# Altium footprint library 618 0xx 233 821.PcbLib: 4 footprints
Each footprint in its own frame and in the unit in brackets; x right, y up, seen from the top. Pads: shape width x height; smd on the part's side, far side on the other; paste and mask are expansions set on the pad; w line width, h text height; cw(c..) or ccw(c..) is an arc to the next point about the centre after c.
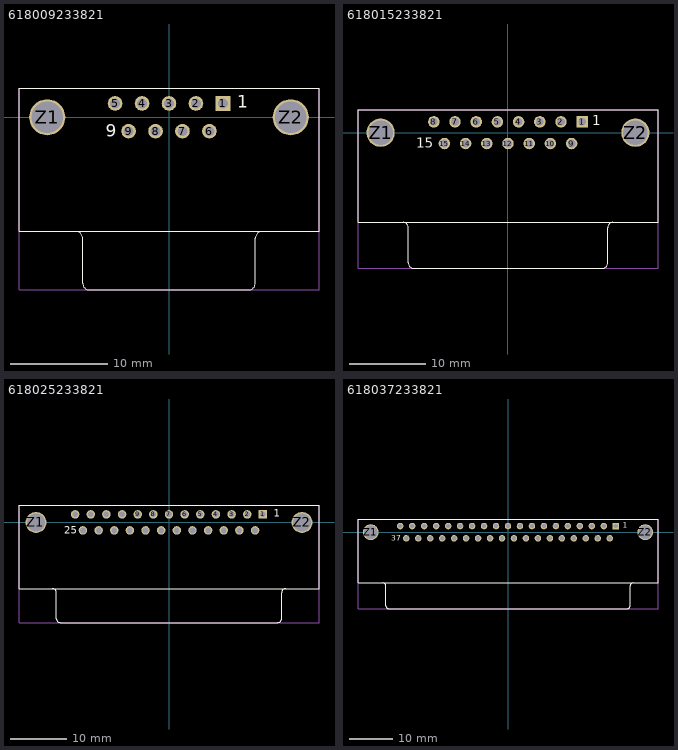
[diagram p0: the footprints below, top view; thin cyan lines are the x and y axes]

## 618009233821 [mm] "09p 10.3mm bracket, board lock & UNC4-40 Rivet without hex screw"
height 12.5
pads (11):
  rect 1.5x1.5 hole 1: 1(5.54,1.42)
  round 1.5 hole 1: 2(2.77,1.42) 3(0,1.42) 4(-2.77,1.42) 5(-5.54,1.42) 6(4.155,-1.42) 7(1.385,-1.42) 8(-1.385,-1.42) 9(-4.155,-1.42)
  round 3.7 hole 3.2: Z1(-12.5,0) Z2(12.5,0)
Top Overlay:
  lines w0.127: -9.56,-11.725 cw(c-9.56,-12.42) -8.865,-12.42 -8.865,-17.02 ; -8.86,-17.025 ccw(c-8.165,-17.025) -8.165,-17.72 8.165,-17.72 ccw(c8.165,-17.025) 8.86,-17.025 ; 8.865,-17.02 8.865,-12.42 cw(c9.56,-12.42) 9.56,-11.725 ; -15.4,-11.72 15.4,-11.72 15.4,3 -15.4,3 -15.4,-11.72
  text "9" at -6.5,-2 h1.27
  text "1" at 7,1 h1.27
Mechanical 13:
  lines w0.127: -15.4,-17.72 -15.4,3 15.4,3 15.4,-17.72 -15.4,-17.72
3D body: height 12.51, standoff -3.17, extent -15.4,-17.725 15.4,3.025

## 618015233821 [mm] "15p 10.3mm bracket, board lock & UNC4-40 Rivet without hex screw"
height 12.5
pads (17):
  rect 1.5x1.5 hole 1: 1(9.695,1.42)
  round 1.5 hole 1: 2(6.925,1.42) 3(4.155,1.42) 4(1.385,1.42) 5(-1.385,1.42) 6(-4.155,1.42) 7(-6.925,1.42) 8(-9.695,1.42) 9(8.31,-1.42) 10(5.54,-1.42) 11(2.77,-1.42) 12(0,-1.42) 13(-2.77,-1.42) 14(-5.54,-1.42) 15(-8.31,-1.42)
  round 3.7 hole 3.2: Z1(-16.65,0) Z2(16.65,0)
Top Overlay:
  lines w0.127: -13.715,-11.725 cw(c-13.715,-12.42) -13.02,-12.42 -13.02,-17.02 ; -13.015,-17.025 ccw(c-12.32,-17.025) -12.32,-17.72 12.32,-17.72 ccw(c12.32,-17.025) 13.015,-17.025 ; 13.02,-17.02 13.02,-12.42 cw(c13.715,-12.42) 13.715,-11.725 ; -19.6,-11.72 -19.6,3 19.6,3 19.6,-11.72 -19.6,-11.72
  text "1" at 11,1 h1.27
  text "15" at -12,-2 h1.27
Mechanical 13:
  lines w0.127: -19.6,-17.72 -19.6,3 19.6,3 19.6,-17.72 -19.6,-17.72
3D body: height 12.51, standoff -3.17, extent -19.6,-17.725 19.6,3.025

## 618025233821 [mm] "25p 10.3mm bracket, board lock & UNC4-40 Rivet without hex screw"
height 12.5
pads (27):
  rect 1.5x1.5 hole 1: 1(16.62,1.42)
  round 1.5 hole 1: 2(13.85,1.42) 3(11.08,1.42) 4(8.31,1.42) 5(5.54,1.42) 6(2.77,1.42) 7(0,1.42) 8(-2.77,1.42) 9(-5.54,1.42) 10(-8.31,1.42) 11(-11.08,1.42) 12(-13.85,1.42) 13(-16.62,1.42) 14(15.235,-1.42) 15(12.465,-1.42) 16(9.695,-1.42) 17(6.925,-1.42) 18(4.155,-1.42) 19(1.385,-1.42) 20(-1.385,-1.42) 21(-4.155,-1.42) 22(-6.925,-1.42) 23(-9.695,-1.42) 24(-12.465,-1.42) 25(-15.235,-1.42)
  round 3.7 hole 3.2: Z1(-23.55,0) Z2(23.55,0)
Top Overlay:
  lines w0.127: -20.64,-11.725 cw(c-20.64,-12.42) -19.945,-12.42 -19.945,-17.02 ; -19.94,-17.025 ccw(c-19.245,-17.025) -19.245,-17.72 19.245,-17.72 ccw(c19.245,-17.025) 19.94,-17.025 ; 19.945,-17.02 19.945,-12.42 cw(c20.64,-12.42) 20.64,-11.725 ; -26.55,-11.72 -26.55,3 26.55,3 26.55,-11.72 -26.55,-11.72
  text "1" at 18.5,1 h1.27
  text "25" at -18.5,-2 h1.27
Mechanical 13:
  lines w0.127: -26.55,-17.72 26.55,-17.72 26.55,3 -26.55,3 -26.55,-17.72
3D body: height 12.51, standoff -3.17, extent -26.55,-17.725 26.55,3.025

## 618037233821 [mm] "37p 10.3mm bracket, board lock & UNC4-40 Rivet without hex screw"
height 12.5
pads (39):
  rect 1.5x1.5 hole 1: 1(24.93,1.42)
  round 1.5 hole 1: 2(22.16,1.42) 3(19.39,1.42) 4(16.62,1.42) 5(13.85,1.42) 6(11.08,1.42) 7(8.31,1.42) 8(5.54,1.42) 9(2.77,1.42) 10(0,1.42) 11(-2.77,1.42) 12(-5.54,1.42) 13(-8.31,1.42) 14(-11.08,1.42) 15(-13.85,1.42) 16(-16.62,1.42) 17(-19.39,1.42) 18(-22.16,1.42) 19(-24.93,1.42) 20(23.545,-1.42) 21(20.775,-1.42) 22(18.005,-1.42) 23(15.235,-1.42) 24(12.465,-1.42) 25(9.695,-1.42) 26(6.925,-1.42) 27(4.155,-1.42) 28(1.385,-1.42) 29(-1.385,-1.42) 30(-4.155,-1.42) 31(-6.925,-1.42) 32(-9.695,-1.42) 33(-12.465,-1.42) 34(-15.235,-1.42) 35(-18.005,-1.42) 36(-20.775,-1.42) 37(-23.545,-1.42)
  round 3.7 hole 3.2: Z1(-31.75,0) Z2(31.75,0)
Top Overlay:
  lines w0.127: -28.95,-11.725 cw(c-28.95,-12.42) -28.255,-12.42 -28.255,-17.02 ; -28.25,-17.025 ccw(c-27.555,-17.025) -27.555,-17.72 27.555,-17.72 ccw(c27.555,-17.025) 28.25,-17.025 ; 28.255,-17.02 28.255,-12.42 cw(c28.95,-12.42) 28.95,-11.725 ; -34.7,-11.72 -34.7,3 34.7,3 34.7,-11.72 -34.7,-11.72
  text "1" at 26.5,1 h1.27
  text "37" at -27,-2 h1.27
Mechanical 13:
  lines w0.127: -34.7,-17.72 -34.7,3 34.7,3 34.7,-17.72 -34.7,-17.72
3D body: height 12.51, standoff -3.17, extent -34.7,-17.725 34.7,3.025